# Altium footprint library TPS55332QPWPRQ1.PcbLib: 1 footprints
Each footprint in its own frame and in the unit in brackets; x right, y up, seen from the top. Pads: shape width x height; smd on the part's side, far side on the other; paste and mask are expansions set on the pad; w line width, h text height; cw(c..) or ccw(c..) is an arc to the next point about the centre after c.
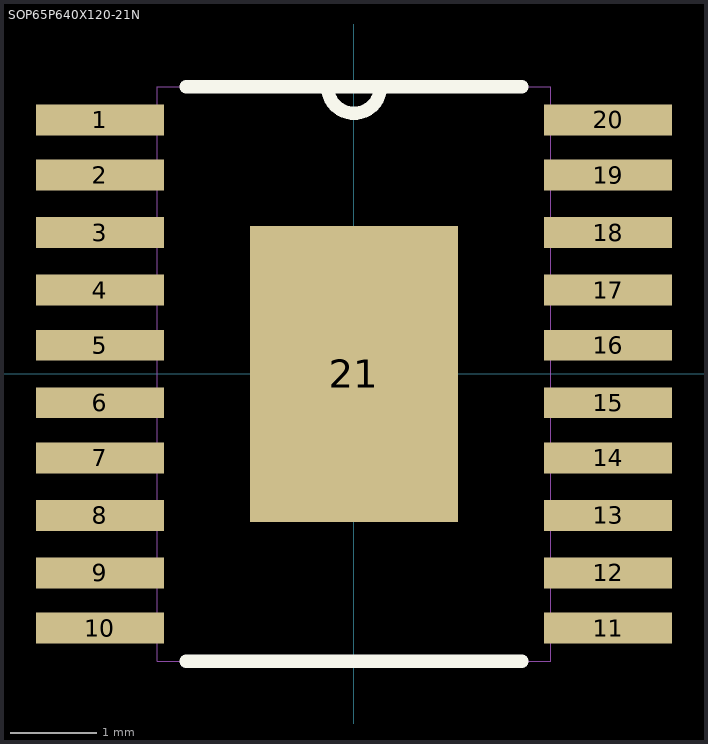
[diagram p0: the footprint, top view; thin cyan lines are the x and y axes]

## SOP65P640X120-21N [mil]
pads (21):
  rect 58x14 smd: 1(-115,115) 2(-115,90) 3(-115,64) 4(-115,38) 5(-115,13) 6(-115,-13) 7(-115,-38) 8(-115,-64) 9(-115,-90) 10(-115,-115) 11(115,-115) 12(115,-90) 13(115,-64) 14(115,-38) 15(115,-13) 16(115,13) 17(115,38) 18(115,64) 19(115,90) 20(115,115)
  rect 94x134 smd: 21(0,0)
Top Overlay:
  lines w6: -76,-130 76,-130 ; -76,130 -12,130 ; 76,130 12,130 ; -12,130 ccw(c0,130) 12,130 ; -12,130 12,130
Mechanical 13:
  lines w0: -12,130 ccw(c0,130) 12,130 ; -12,130 12,130 ; -12,130 -89,130 -89,-130 89,-130 89,130 12,130 ; -130,-121 -130,-109 -89,-109 -89,-121 -130,-121 ; -130,-95 -130,-84 -89,-84 -89,-95 -130,-95 ; -130,-70 -130,-58 -89,-58 -89,-70 -130,-70 ; -130,-44 -130,-32 -89,-32 -89,-44 -130,-44 ; -130,-19 -130,-7 -89,-7 -89,-19 -130,-19 ; -130,7 -130,19 -89,19 -89,7 -130,7 ; -130,32 -130,44 -89,44 -89,32 -130,32 ; -130,58 -130,70 -89,70 -89,58 -130,58 ; -130,84 -130,95 -89,95 -89,84 -130,84 ; -130,109 -130,121 -89,121 -89,109 -130,109 ; 89,-121 89,-109 130,-109 130,-121 89,-121 ; 89,-95 89,-84 130,-84 130,-95 89,-95 ; 89,-70 89,-58 130,-58 130,-70 89,-70 ; 89,-44 89,-32 130,-32 130,-44 89,-44 ; 89,-19 89,-7 130,-7 130,-19 89,-19 ; 89,7 89,19 130,19 130,7 89,7 ; 89,32 89,44 130,44 130,32 89,32 ; 89,58 89,70 130,70 130,58 89,58 ; 89,84 89,95 130,95 130,84 89,84 ; 89,109 89,121 130,121 130,109 89,109
3D body "step_temp.STEP": height 43.31, standoff 0, extent -125.98,-127.95 125.98,127.95